# Altium footprint library PcbLib.PcbLib: 285 footprints (part 14 of 18)
Each footprint in its own frame and in the unit in brackets; x right, y up, seen from the top. Pads: shape width x height; smd on the part's side, far side on the other; paste and mask are expansions set on the pad; w line width, h text height; cw(c..) or ccw(c..) is an arc to the next point about the centre after c.
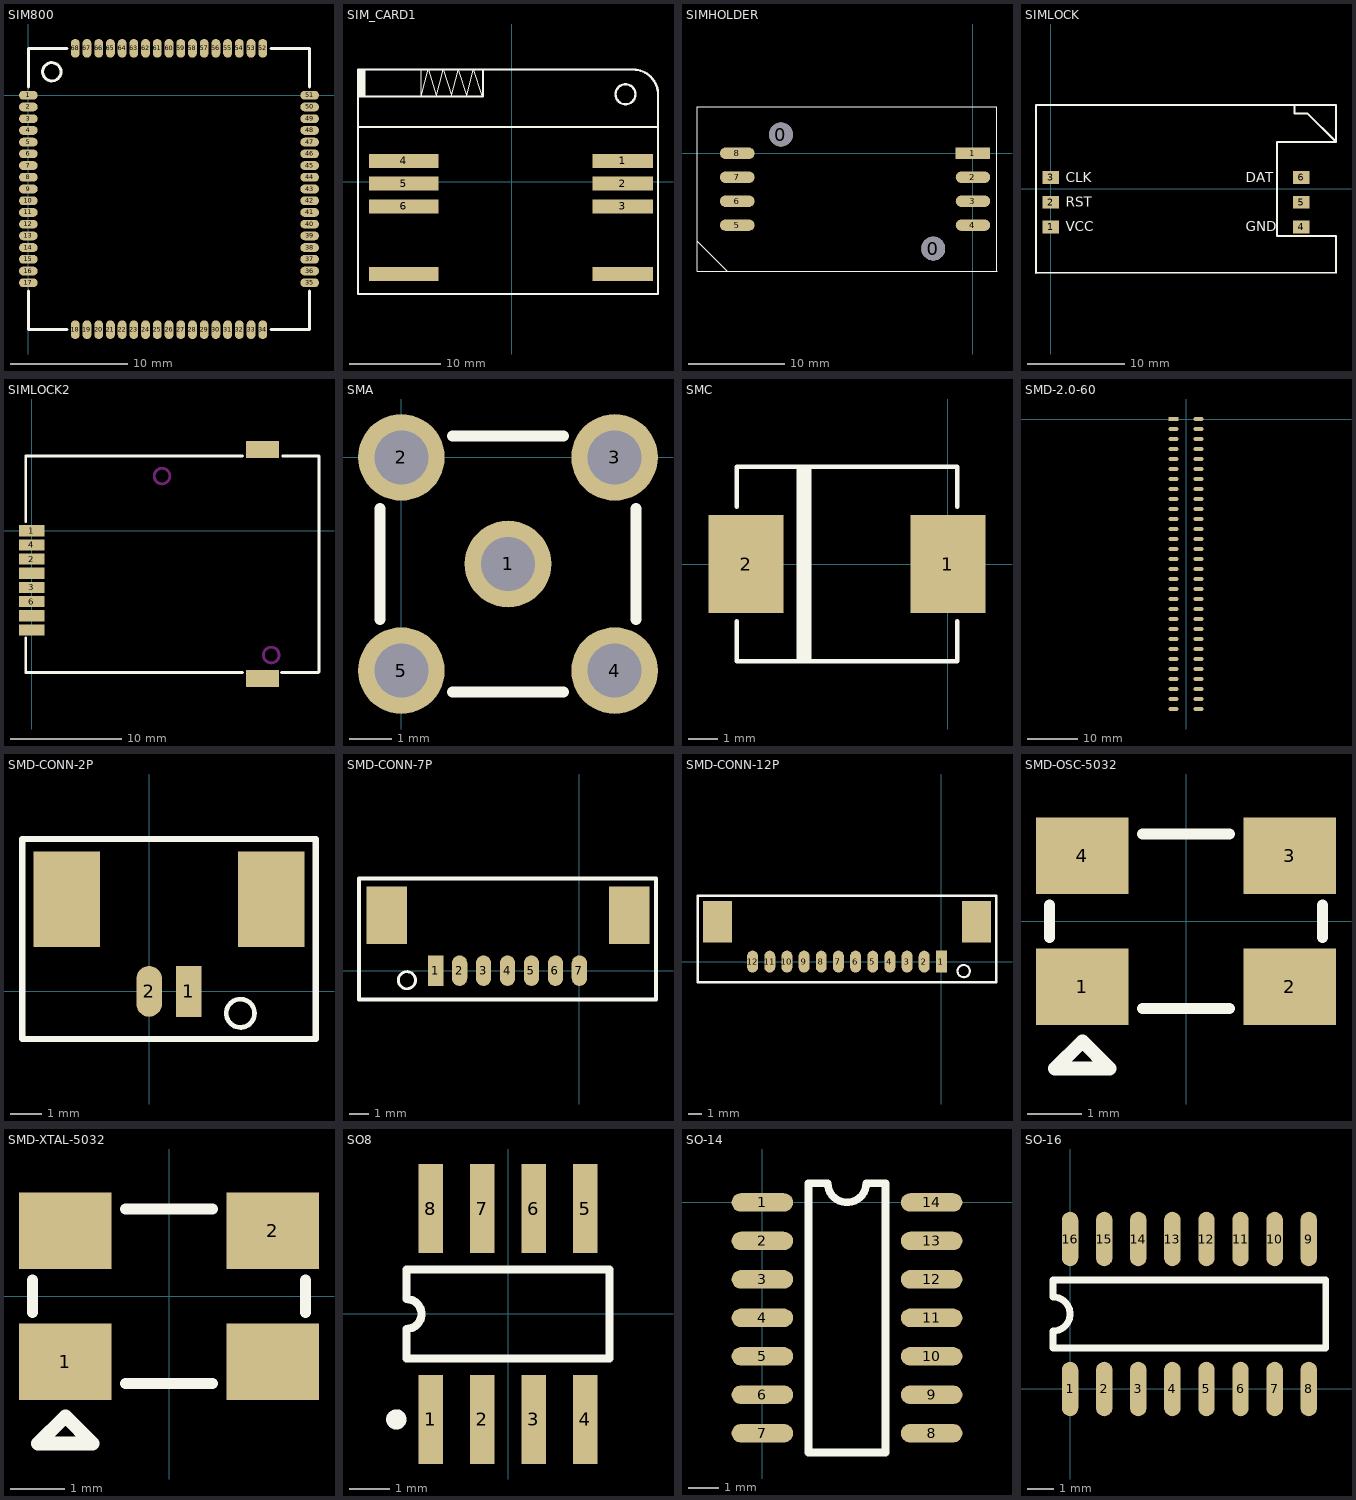
[diagram p13: the footprints below, top view; thin cyan lines are the x and y axes]

## SIM800 [mm]
pads (68):
  oval 1.6x0.75 smd: 1(0,0) 2(0,-1) 3(0,-2) 4(0,-3) 5(0,-4) 6(0,-5) 7(0,-6) 8(0,-7) 9(0,-8) 10(0,-9) 11(0,-10) 12(0,-11) 13(0,-12) 14(0,-13) 15(0,-14) 16(0,-15) 17(0,-16) 35(24,-16) 36(24,-15) 37(24,-14) 38(24,-13) 39(24,-12) 40(24,-11) 41(24,-10) 42(24,-9) 43(24,-8) 44(24,-7) 45(24,-6) 46(24,-5) 47(24,-4) 48(24,-3) 49(24,-2) 50(24,-1) 51(24,0)
  oval 0.75x1.6 smd: 18(4,-20) 19(5,-20) 20(6,-20) 21(7,-20) 22(8,-20) 23(9,-20) 24(10,-20) 25(11,-20) 26(12,-20) 27(13,-20) 28(14,-20) 29(15,-20) 30(16,-20) 31(17,-20) 32(18,-20) 33(19,-20) 34(20,-20) 52(20,4) 53(19,4) 54(18,4) 55(17,4) 56(16,4) 57(15,4) 58(14,4) 59(13,4) 60(12,4) 61(11,4) 62(10,4) 63(9,4) 64(8,4) 65(7,4) 66(6,4) 67(5,4) 68(4,4)
Top Overlay:
  circle w0.254: c2,2 r0.781
  lines w0.254: 0,-16.7 0,-20 3.3,-20 ; 0,0.7 0,4 3.3,4 ; 20.7,-20 24,-20 24,-16.7 ; 20.7,4 24,4 24,0.7

## SIM_CARD1 [mm] "抽屉式SIM卡座"
height 3
pads (8):
  rect 6.604x1.524 smd: 1(12.15,2.3) 2(12.15,-0.2) 3(12.15,-2.7) ""(12.15,-10.1)
  rect 7.62x1.524 smd: 4(-11.85,2.3) 5(-11.85,-0.2) 6(-11.85,-2.7) ""(-11.85,-10.1)
Top Overlay:
  circle w0.254: c12.455,9.59 r1.096
  rectangle: -16.85,9.349 -16.05,12.2
  lines w0.127: -16.565,12.3 -16.05,12.3 -16.05,9.349 -16.4,9.349 ; -9.923,9.387 -9.176,12.322 -8.259,9.437 ; -9.908,9.444 -9.908,12.331 ; -8.267,9.314 -7.521,12.249 -6.604,9.365 ; -6.621,9.298 -5.874,12.233 -4.957,9.349 -4.211,12.283 -3.293,9.399
  lines w0.254: -16.85,6.008 15.871,6.008 ; -16.85,9.349 -3.153,9.349 -3.153,12.27 ; 13.293,12.3 cw(c13.293,9.577) 16.014,9.475 ; 13.407,12.3 -16.85,12.3 -16.85,-12.3 16.01,-12.3 16.01,9.552

## SIMHOLDER [mm]
pads (10):
  round 2.5 hole 2.5: 0(-20.049,1.949) 0(-4.145,-9.953)
  rect 3.6x1.2 smd: 1(0,0)
  oval 3.6x1.2 smd: 2(0,-2.5) 3(0,-5) 4(0,-7.5) 5(-24.6,-7.5) 6(-24.6,-5) 7(-24.6,-2.5) 8(-24.6,0)
Top Overlay:
  lines w0.127: -28.75,-9.203 -25.65,-12.303 ; -28.8,-12.303 -28.8,4.85 2.506,4.85 2.506,-12.303 -28.8,-12.303

## SIMLOCK [mm]
pads (6):
  rect 1.7x1.3 smd: 1(0,-3.9) 2(0,-1.36) 3(0,1.18) 4(25.7,-3.9) 5(25.7,-1.36) 6(25.7,1.18)
Top Overlay:
  lines w0.1: -1.52,-8.6 0,-8.6 ; 11.41,-8.6 29.23,-8.6
  lines w0.2: -1.53,-8.61 -1.53,8.59 -1.52,8.6 29.25,8.6 29.25,4.82 ; -1.52,-8.6 29.23,-8.6 ; 24.98,8.6 24.98,7.76 26.31,7.76 29.25,4.82 ; 29.25,-8.56 29.25,-4.82 23.18,-4.82 23.18,4.82 29.25,4.82 ; 29.23,-8.6 29.25,-8.58 29.23,-8.6
  text "DAT" at 20,0.68 h1
  text "GND" at 20,-4.33 h1
  text "CLK" at 1.51,0.69 h1
  text "RST" at 1.51,-1.82 h1
  text "VCC" at 1.51,-4.33 h1

## SIMLOCK2 [mm]
pads (10):
  rect 2.3x1 smd: 1(0,0) 2(0,-2.54) 3(0,-5.08) 4(0,-1.27) 6(0,-6.35) ""(0,-8.89) ""(0,-7.62) ""(0,-3.81)
  rect 2.95x1.5 smd: ""(20.7,-13.26) ""(20.7,7.29)
Top Overlay:
  lines w0.254: -0.55,-9.6 -0.55,-12.7 18.9,-12.7 ; -0.55,0.8 -0.55,6.7 18.9,6.7 ; 22.4,-12.7 25.7,-12.7 ; 22.5,6.7 25.75,6.7 25.75,-12.65
Keep-Out Layer:
  circle w0.254: c21.47,-11.15 r0.7
  circle w0.254: c11.67,4.9 r0.7

## SMA [mil]
pads (5):
  round 80 hole 50: 1(98.42,-98.42) 2(0,0) 3(196.85,0) 4(196.85,-196.85) 5(0,-196.85)
Top Overlay:
  lines w10: -19.69,-149.61 -19.69,-47.24 ; 47.24,-216.54 149.61,-216.54 ; 47.24,19.68 149.61,19.68 ; 216.54,-149.61 216.54,-47.24

## SMC [mil]
pads (2):
  rect 99x130 smd: 1(0,0) 2(-267.72,0)
Top Overlay:
  rectangle: -200.79,-128.74 -181.1,128.74
  lines w6: -280.12,-76 -280.12,-128.74 12.4,-128.74 12.4,-76 ; -280.12,76 -280.12,128.74 12.4,128.74 12.4,76

## SMD-2.0-60 [mm]
pads (60):
  rect 2x0.8 smd: 1(-2.5,0)
  oval 2x0.8 smd: 2(-2.5,-2) 3(-2.5,-4) 4(-2.5,-6) 5(-2.5,-8) 6(-2.5,-10) 7(-2.5,-12) 8(-2.5,-14) 9(-2.5,-16) 10(-2.5,-18) 11(-2.5,-20) 12(-2.5,-22) 13(-2.5,-24) 14(-2.5,-26) 15(-2.5,-28) 16(-2.5,-30) 17(-2.5,-32) 18(-2.5,-34) 19(-2.5,-36) 20(-2.5,-38) 21(-2.5,-40) 22(-2.5,-42) 23(-2.5,-44) 24(-2.5,-46) 25(-2.5,-48) 26(-2.5,-50) 27(-2.5,-52) 28(-2.5,-54) 29(-2.5,-56) 30(-2.5,-58) 31(2.5,-58) 32(2.5,-56) 33(2.5,-54) 34(2.5,-52) 35(2.5,-50) 36(2.5,-48) 37(2.5,-46) 38(2.5,-44) 39(2.5,-42) 40(2.5,-40) 41(2.5,-38) 42(2.5,-36) 43(2.5,-34) 44(2.5,-32) 45(2.5,-30) 46(2.5,-28) 47(2.5,-26) 48(2.5,-24) 49(2.5,-22) 50(2.5,-20) 51(2.5,-18) 52(2.5,-16) 53(2.5,-14) 54(2.5,-12) 55(2.5,-10) 56(2.5,-8) 57(2.5,-6) 58(2.5,-4) 59(2.5,-2) 60(2.5,0)

## SMD-CONN-2P [mm]
pads (4):
  rect 0.8x1.6 smd: 1(1.25,0)
  oval 0.8x1.6 smd: 2(0,0)
  rect 2.1x3 smd: ""(-2.6,2.9) ""(3.85,2.9)
Top Overlay:
  circle w0.15: c2.874,-0.69 r0.446
  lines w0.2: -4,-1.49 -4,4.8 5.25,4.8 5.25,0 5.25,-1.5 -3.99,-1.5

## SMD-CONN-7P [mm]
pads (9):
  rect 0.8x1.6 smd: 1(-7.5,0)
  oval 0.8x1.6 smd: 2(-6.25,0) 3(-5,0) 4(-3.75,0) 5(-2.5,0) 6(-1.25,0) 7(0,0)
  rect 2.1x3 smd: ""(-10.05,2.9) ""(2.6,2.9)
Top Overlay:
  circle w0.15: c-8.996,-0.5 r0.446
  lines w0.2: -11.5,-1.5 -11.5,4.8 4,4.8 4,-1.5 -11.5,-1.5

## SMD-CONN-12P [mm]
pads (14):
  rect 0.8x1.6 smd: 1(0,0)
  oval 0.8x1.6 smd: 2(-1.25,0) 3(-2.5,0) 4(-3.75,0) 5(-5,0) 6(-6.25,0) 7(-7.5,0) 8(-8.75,0) 9(-10,0) 10(-11.25,0) 11(-12.5,0) 12(-13.75,0)
  rect 2.1x3 smd: ""(-16.3,2.9) ""(2.55,2.9)
Top Overlay:
  circle w0.15: c1.624,-0.69 r0.446
  lines w0.2: -17.75,-1.5 4,-1.5 4,0 4,4.8 -17.75,4.8 -17.75,-1.5

## SMD-OSC-5032 [mm]
pads (4):
  rect 1.7x1.4 smd: 1(-1.9,-1.2) 2(1.9,-1.2) 3(1.9,1.2) 4(-1.9,1.2)
Top Overlay:
  lines w0.2: -2.5,-0.3 -2.5,0.3 ; -0.8,-1.6 0.8,-1.6 ; -0.8,1.6 0.8,1.6 ; 2.5,-0.3 2.5,0.3
  lines w0.254: -1.9,-2.2 -1.9,-2.2 ; -1.9,-2.2 -2.4,-2.7 -1.4,-2.7 -1.9,-2.2

## SMD-XTAL-5032 [mm]
pads (4):
  rect 1.7x1.4 smd: 1(-1.9,-1.2) 2(1.9,1.2) ""(-1.9,1.2) ""(1.9,-1.2)
Top Overlay:
  lines w0.2: -2.5,-0.3 -2.5,0.3 ; -0.8,-1.6 0.8,-1.6 ; -0.8,1.6 0.8,1.6 ; 2.5,-0.3 2.5,0.3
  lines w0.254: -1.9,-2.2 -1.4,-2.7 -2.4,-2.7 -1.9,-2.2 ; -1.9,-2.2 -1.9,-2.2

## SO8 [mm] "Small Outline; 8 Leads; Body Width 3.9 mm; Pitch 1.27 mm"
height 1.75
pads (8):
  rect 0.6x2.2 smd: 1(-1.905,-2.6) 2(-0.635,-2.6) 3(0.635,-2.6) 4(1.905,-2.6) 5(1.905,2.6) 6(0.635,2.6) 7(-0.635,2.6) 8(-1.905,2.6)
Top Overlay:
  circle w0.25: c-2.755,-2.6 r0.125
  lines w0.2: -2.5,-1.1 2.5,-1.1 2.5,1.1 -2.5,1.1 -2.5,0.367 cw(c-2.5,0) -2.5,-0.367 -2.5,-1.1

## SO-14 [mil]
pads (14):
  oval 80x24 smd: 1(0,0) 2(0,-50) 3(0,-100) 4(0,-150) 5(0,-200) 6(0,-250) 7(0,-300) 8(220,-300) 9(220,-250) 10(220,-200) 11(220,-150) 12(220,-100) 13(220,-50) 14(220,0)
Top Overlay:
  lines w10: 60,-325 160,-325 160,25 135,25 cw(c110,25) 85,25 60,25 60,-325

## SO-16 [mil] "Small Outline; 16 Leads; Body Width 5.6 mm; Pitch 1.27 mm"
height 86.61
pads (16):
  oval 24x80 smd: 1(0,0) 2(50,0) 3(100,0) 4(150,0) 5(200,0) 6(250,0) 7(300,0) 8(350,0) 9(350,220) 10(300,220) 11(250,220) 12(200,220) 13(150,220) 14(100,220) 15(50,220) 16(0,220)
Top Overlay:
  lines w10: -25,60 -25,85 ccw(c-25,110) -25,135 -25,160 375,160 375,60 -25,60